# EAGLE library part TPS78618KTTR (library TPS78618KTTR)
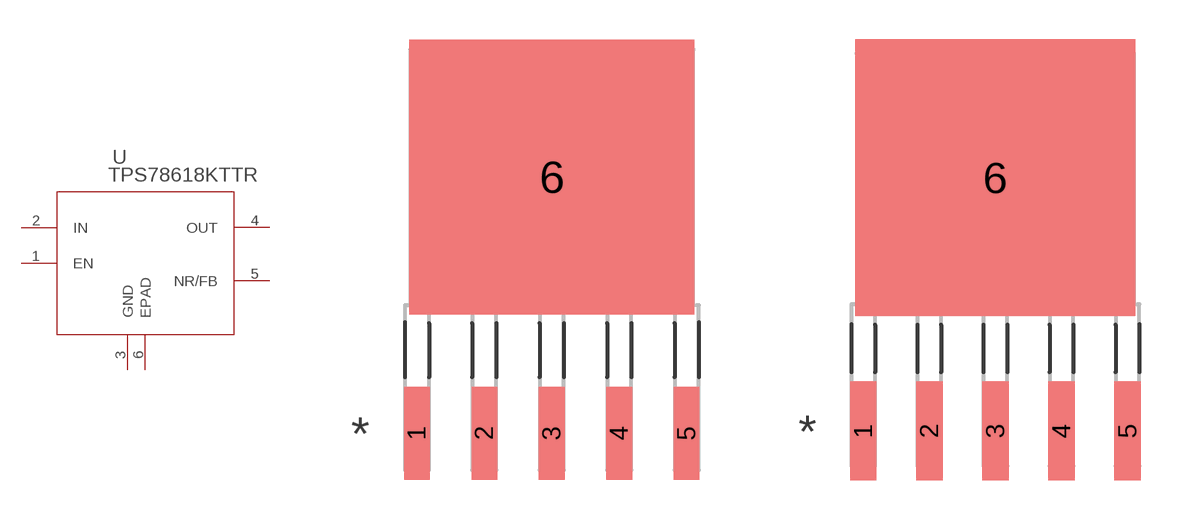
[diagram p0: symbol with the pads of KTT5_6P22X6P86; footprints KTT5_6P22X6P86, KTT5_6P22X6P86-M]

Designator prefix U

## TPS78618KTTR (MANUFACTURER_PART_NUMBER: TPS78618KTTR; VENDOR: Texas Instruments)  [KTT5_6P22X6P86]
1  EN  pas
2  IN  in
3  GND  pwr
4  OUT  out
5  NR/FB  pas
6  EPAD  pas

## TPS78618KTTRKTT5_6P22X6P86-M (MANUFACTURER_PART_NUMBER: TPS78618KTTR; VENDOR: Texas Instruments)  [KTT5_6P22X6P86-M]
Pads as for KTT5_6P22X6P86

## TPS78618KTTRKTT5_6P22X6P86-L (MANUFACTURER_PART_NUMBER: TPS78618KTTR; VENDOR: Texas Instruments)  [KTT5_6P22X6P86-L]
Pads as for KTT5_6P22X6P86

## Footprint KTT5_6P22X6P86 (pad centres in mm)
smd 0.965 x 3.505: 1 -5.08,-9.652; 2 -2.54,-9.652; 3 0,-9.652; 4 2.54,-9.652; 5 5.08,-9.652
smd 10.719 x 10.363: 6 0,0

## Footprint KTT5_6P22X6P86-M (pad centres in mm)
smd 1.016 x 3.81: 1 -5.08,-9.703; 2 -2.54,-9.703; 3 0,-9.703; 4 2.54,-9.703; 5 5.08,-9.703
smd 10.77 x 10.668: 6 0,0.051

## Footprint KTT5_6P22X6P86-L (pad centres in mm)
smd 0.914 x 3.2: 1 -5.08,-9.601; 2 -2.54,-9.601; 3 0,-9.601; 4 2.54,-9.601; 5 5.08,-9.601
smd 10.668 x 10.058: 6 0,-0.051